# Altium footprint library AMDC.PcbLib: 35 footprints (part 2 of 3)
Each footprint in its own frame and in the unit in brackets; x right, y up, seen from the top. Pads: shape width x height; smd on the part's side, far side on the other; paste and mask are expansions set on the pad; w line width, h text height; cw(c..) or ccw(c..) is an arc to the next point about the centre after c.
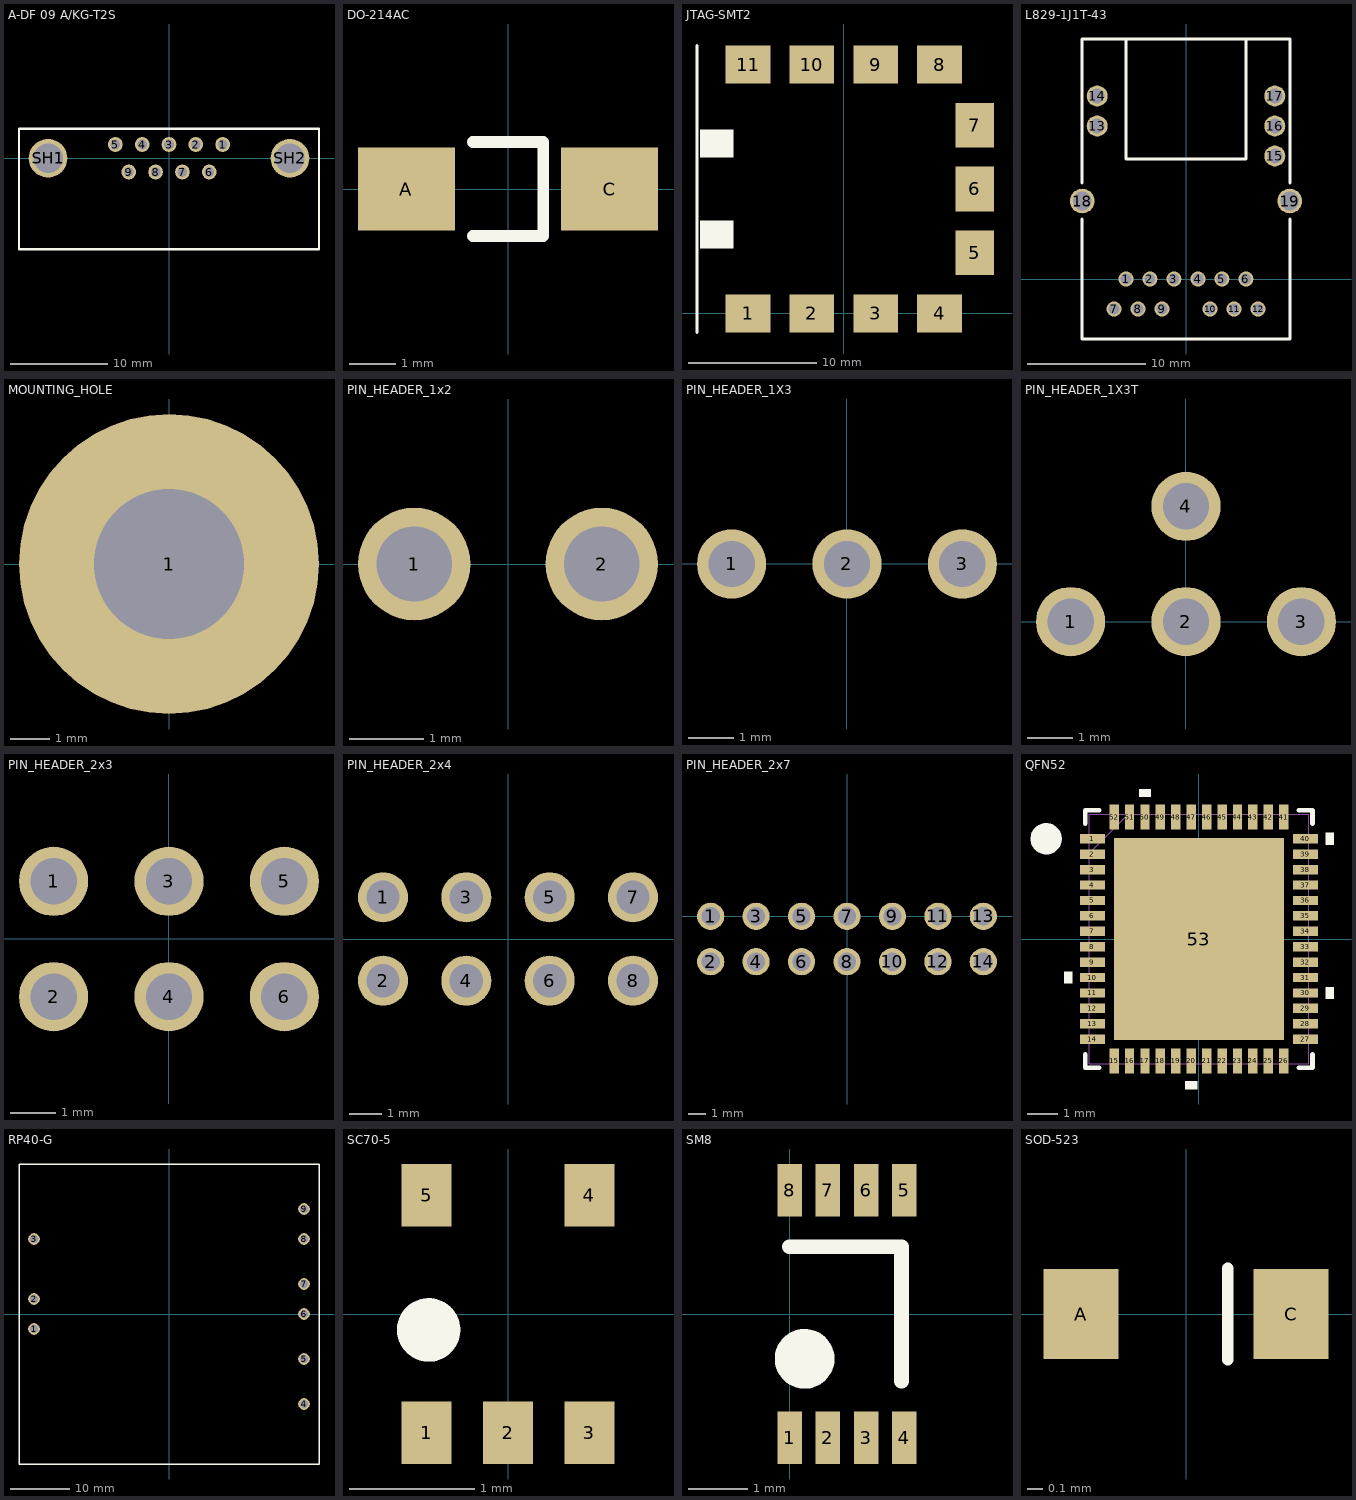
[diagram p1: the footprints below, top view; thin cyan lines are the x and y axes]

## A-DF 09 A/KG-T2S [mm] "CONN D-SUB RCPT 9POS R/A SOLDER"
height 12.55
pads (11):
  round 1.524 hole 1: 1(5.54,1.42) 2(2.77,1.42) 3(0,1.42) 4(-2.77,1.42) 5(-5.54,1.42) 6(4.155,-1.42) 7(1.385,-1.42) 8(-1.385,-1.42) 9(-4.155,-1.42)
  round 4 hole 3.05: SH1(-12.495,0) SH2(12.495,0)
Top Overlay:
  lines w0.254: -15.494,-9.398 15.494,-9.398 15.494,0 15.494,3.048 -15.494,3.048 -15.494,0 -15.494,-9.398

## DO-214AC [mm]
pads (2):
  rect 2.1x1.8 smd: A(-2.2,0) C(2.2,0)
Top Overlay:
  lines w0.254: -0.762,-1.016 0.762,-1.016 0.762,1.016 -0.762,1.016

## JTAG-SMT2 [mm]
pads (11):
  rect 3.5x3 smd: 1(-7.5,0) 2(-2.5,0) 3(2.5,0) 4(7.5,0) 8(7.5,19.5) 9(2.5,19.5) 10(-2.5,19.5) 11(-7.5,19.5)
  rect 3x3.5 smd: 5(10.25,4.75) 6(10.25,9.75) 7(10.25,14.75)
Top Overlay:
  rectangle: -11.25,12.2 -8.65,14.4
  rectangle: -11.25,5.1 -8.65,7.3
  lines w0.254: -11.5,-1.5 -11.5,21

## L829-1J1T-43 [mil] "CONN MAGJACK 1PORT 1000 BASE-T"
height 440
pads (21):
  round 50 hole 35.04: 1(-200,0) 2(-120.08,0) 3(-40.08,0) 4(40,0) 5(119.92,0) 6(199.92,0) 7(-240,-100) 8(-160,-100) 9(-80,-100) 10(80,-100) 11(160,-100) 12(240,-100)
  round 70 hole 50: 13(-296,510) 14(-296,610) 15(296,410) 16(296,510) 17(296,610)
  round 82 hole 62: 18(-346,260) 19(346,260)
  round 128 on Drill Guide: ""(-190,260) ""(190,260)
Top Overlay:
  pour cut-out: -80,400
  lines w10: -346,200 -346,-200 346,-200 346,200 ; -346,320 -346,800 -173,800 73,800 346,800 346,320 ; -200,800 -200,400 200,400 200,800

## MOUNTING_HOLE [mil]
pads (1):
  round 300 hole 150: 1(0,0)

## PIN_HEADER_1x2 [mil]
pads (2):
  round 60 hole 40.16: 1(-50,0) 2(50,0)

## PIN_HEADER_1X3 [mil]
pads (3):
  round 60 hole 40.16: 1(-100,0) 2(0,0) 3(100,0)

## PIN_HEADER_1X3T [mil]
pads (4):
  round 60 hole 40.16: 1(-100,0) 2(0,0) 3(100,0) 4(0,100)

## PIN_HEADER_2x3 [mil]
pads (6):
  round 60 hole 40.16: 1(-100,50) 2(-100,-50) 3(0,50) 4(0,-50) 5(100,50) 6(100,-50)

## PIN_HEADER_2x4 [mil]
pads (8):
  round 60 hole 40.16: 1(-150,50) 2(-150,-50) 3(-50,50) 4(-50,-50) 5(50,50) 6(50,-50) 7(150,50) 8(150,-50)

## PIN_HEADER_2x7 [mil]
pads (14):
  round 60 hole 40.16: 1(-300,0) 2(-300,-100) 3(-200,0) 4(-200,-100) 5(-100,0) 6(-100,-100) 7(0,0) 8(0,-100) 9(100,0) 10(100,-100) 11(200,0) 12(200,-100) 13(300,0) 14(300,-100)

## QFN52 [mil] "Small 52-Lead (7mm × 8mm) QFN Package"
pads (53):
  rect 32x12 smd paste+0 mask+0: 1(-136,127.95) 2(-136,108.27) 3(-136,88.58) 4(-136,68.9) 5(-136,49.21) 6(-136,29.53) 7(-136,9.84) 8(-136,-9.84) 9(-136,-29.53) 10(-136,-49.21) 11(-136,-68.9) 12(-136,-88.58) 13(-136,-108.27) 14(-136,-127.95) 27(136,-127.95) 28(136,-108.27) 29(136,-88.58) 30(136,-68.9) 31(136,-49.21) 32(136,-29.53) 33(136,-9.84) 34(136,9.84) 35(136,29.53) 36(136,49.21) 37(136,68.9) 38(136,88.58) 39(136,108.27) 40(136,127.95)
  rect 12x32 smd paste+0 mask+0: 15(-108.27,-155.5) 16(-88.58,-155.5) 17(-68.9,-155.5) 18(-49.21,-155.5) 19(-29.53,-155.5) 20(-9.84,-155.5) 21(9.84,-155.5) 22(29.53,-155.5) 23(49.21,-155.5) 24(68.9,-155.5) 25(88.58,-155.5) 26(108.27,-155.5) 41(108.27,155.5) 42(88.58,155.5) 43(68.9,155.5) 44(49.21,155.5) 45(29.53,155.5) 46(9.84,155.5) 47(-9.84,155.5) 48(-29.53,155.5) 49(-49.21,155.5) 50(-68.9,155.5) 51(-88.58,155.5) 52(-108.27,155.5)
  rect 216.93x257.87 smd paste-128.44 mask+0: 53(0,0)
Top Overlay:
  circle w20: c-195,127.95 r10
  region: -61.4,181.5 -76.4,181.5 -76.4,191.5 -61.4,191.5
  region: 162,135.45 172,135.45 172,120.45 162,120.45
  region: 162,-61.4 172,-61.4 172,-76.4 162,-76.4
  region: -2.34,-181.5 -17.34,-181.5 -17.34,-191.5 -2.34,-191.5
  region: -162,-41.71 -172,-41.71 -172,-56.71 -162,-56.71
  lines w6: -145,-147.05 -145,-164.5 -127.37,-164.5 ; -145,147.05 -145,164.5 -127.37,164.5 ; 127.37,-164.5 145,-164.5 145,-147.05 ; 127.37,164.5 145,164.5 145,147.05
Top Paste:
  region: 104.53,-81.3 58.17,-81.3 58.17,-125 104.53,-125
  region: 104.53,-29.72 58.17,-29.72 58.17,-73.43 104.53,-73.43
  region: 104.53,21.85 58.17,21.85 58.17,-21.85 104.53,-21.85
  region: 104.53,73.43 58.17,73.43 58.17,29.72 104.53,29.72
  region: 104.53,125 58.17,125 58.17,81.3 104.53,81.3
  region: 50.3,-81.3 3.94,-81.3 3.94,-125 50.3,-125
  region: 50.3,-29.72 3.94,-29.72 3.94,-73.43 50.3,-73.43
  region: 50.3,21.85 3.94,21.85 3.94,-21.85 50.3,-21.85
  region: 50.3,73.43 3.94,73.43 3.94,29.72 50.3,29.72
  region: 50.3,125 3.94,125 3.94,81.3 50.3,81.3
  region: -3.94,-81.3 -50.3,-81.3 -50.3,-125 -3.94,-125
  region: -3.94,-29.72 -50.3,-29.72 -50.3,-73.43 -3.94,-73.43
  region: -3.94,21.85 -50.3,21.85 -50.3,-21.85 -3.94,-21.85
  region: -3.94,73.43 -50.3,73.43 -50.3,29.72 -3.94,29.72
  region: -3.94,125 -50.3,125 -50.3,81.3 -3.94,81.3
  region: -58.17,-81.3 -104.53,-81.3 -104.53,-125 -58.17,-125
  region: -58.17,-29.72 -104.53,-29.72 -104.53,-73.43 -58.17,-73.43
  region: -58.17,21.85 -104.53,21.85 -104.53,-21.85 -58.17,-21.85
  region: -58.17,73.43 -104.53,73.43 -104.53,29.72 -58.17,29.72
  region: -58.17,125 -104.53,125 -104.53,81.3 -58.17,81.3
Mechanical 13:
  lines w1: -140,109.5 -90,159.5 ; -140,-159.5 -140,159.5 140,159.5 140,-159.5 -140,-159.5 ; -140,-133.95 -140,-121.95 -140,-133.95 ; -140,-114.27 -140,-102.27 -140,-114.27 ; -140,-94.58 -140,-82.58 -140,-94.58 ; -140,-74.9 -140,-62.9 -140,-74.9 ; -140,-55.21 -140,-43.21 -140,-55.21 ; -140,-35.53 -140,-23.53 -140,-35.53 ; -140,-15.84 -140,-3.84 -140,-15.84 ; -140,3.84 -140,15.84 -140,3.84 ; -140,23.53 -140,35.53 -140,23.53 ; -140,43.21 -140,55.21 -140,43.21 ; -140,62.9 -140,74.9 -140,62.9 ; -140,82.58 -140,94.58 -140,82.58 ; -140,102.27 -140,114.27 -140,102.27 ; -140,121.95 -140,133.95 -140,121.95 ; -114.27,-159.5 -102.27,-159.5 -114.27,-159.5 ; -114.27,159.5 -102.27,159.5 -114.27,159.5 ; -94.58,-159.5 -82.58,-159.5 -94.58,-159.5 ; -94.58,159.5 -82.58,159.5 -94.58,159.5 ; -74.9,-159.5 -62.9,-159.5 -74.9,-159.5 ; -74.9,159.5 -62.9,159.5 -74.9,159.5 ; -55.21,-159.5 -43.21,-159.5 -55.21,-159.5 ; -55.21,159.5 -43.21,159.5 -55.21,159.5 ; -35.53,-159.5 -23.53,-159.5 -35.53,-159.5 ; -35.53,159.5 -23.53,159.5 -35.53,159.5 ; -15.84,-159.5 -3.84,-159.5 -15.84,-159.5 ; -15.84,159.5 -3.84,159.5 -15.84,159.5 ; 3.84,-159.5 15.84,-159.5 3.84,-159.5 ; 3.84,159.5 15.84,159.5 3.84,159.5 ; 23.53,-159.5 35.53,-159.5 23.53,-159.5 ; 23.53,159.5 35.53,159.5 23.53,159.5 ; 43.21,-159.5 55.21,-159.5 43.21,-159.5 ; 43.21,159.5 55.21,159.5 43.21,159.5 ; 62.9,-159.5 74.9,-159.5 62.9,-159.5 ; 62.9,159.5 74.9,159.5 62.9,159.5 ; 82.58,-159.5 94.58,-159.5 82.58,-159.5 ; 82.58,159.5 94.58,159.5 82.58,159.5 ; 102.27,-159.5 114.27,-159.5 102.27,-159.5 ; 102.27,159.5 114.27,159.5 102.27,159.5 ; 140,-133.95 140,-121.95 140,-133.95 ; 140,-114.27 140,-102.27 140,-114.27 ; 140,-94.58 140,-82.58 140,-94.58 ; 140,-74.9 140,-62.9 140,-74.9 ; 140,-55.21 140,-43.21 140,-55.21 ; 140,-35.53 140,-23.53 140,-35.53 ; 140,-15.84 140,-3.84 140,-15.84 ; 140,3.84 140,15.84 140,3.84 ; 140,23.53 140,35.53 140,23.53 ; 140,43.21 140,55.21 140,43.21 ; 140,62.9 140,74.9 140,62.9 ; 140,82.58 140,94.58 140,82.58 ; 140,102.27 140,114.27 140,102.27 ; 140,121.95 140,133.95 140,121.95
  text "*" at -120,137.8 h50
3D body: height 10, standoff 0, extent 0,0 10,10

## RP40-G [mm] "CONV DC/DC"
height 10.2
pads (9):
  round 2 hole 1.4: 1(-22.86,-2.54) 2(-22.86,2.54) 3(-22.86,12.7) 4(22.86,-15.24) 5(22.86,-7.62) 6(22.86,0) 7(22.86,5.08) 8(22.86,12.7) 9(22.86,17.78)
Top Overlay:
  lines w0.254: -25.4,-25.4 25.4,-25.4 25.4,25.4 -25.4,25.4 -25.4,-25.4

## SC70-5 [mm]
height 0.95
pads (5):
  rect 0.4x0.5 smd: 1(-0.65,-0.95) 2(0,-0.95) 3(0.65,-0.95) 4(0.65,0.95) 5(-0.65,0.95)
Top Overlay:
  circle w0.254: c-0.635,-0.127 r0.127

## SM8 [mm]
height 1.1
pads (8):
  rect 0.42x0.889 smd: 1(0,-2.105) 2(0.65,-2.105) 3(1.3,-2.105) 4(1.95,-2.105) 5(1.95,2.105) 6(1.3,2.105) 7(0.65,2.105) 8(0,2.105)
Top Overlay:
  circle w0.508: c0.254,-0.762 r0.254
  lines w0.254: 0,1.143 1.905,1.143 1.905,-1.143

## SOD-523 [mm]
pads (2):
  rect 0.5x0.6 smd paste+0 mask+0: A(-0.7,0) C(0.7,0)
Top Overlay:
  lines w0.076: 0.279,-0.305 0.279,0.305